# EAGLE library part PINHD-1X14 (library C128_U36_1MB)
PIN HEADER
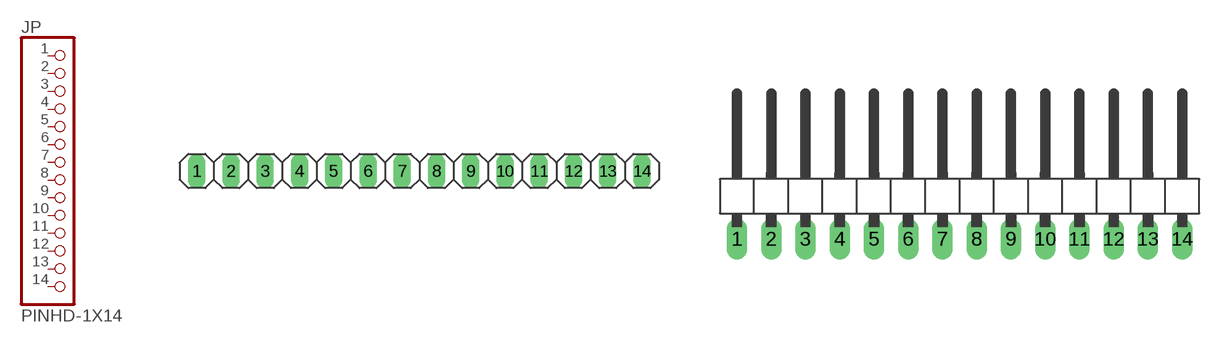
[diagram p7: symbol with the pads of 1X14; footprints 1X14, 1X14/90]

Designator prefix JP

## PINHD-1X14  [1X14]
1  1  pas
2  2  pas
3  3  pas
4  4  pas
5  5  pas
6  6  pas
7  7  pas
8  8  pas
9  9  pas
10  10  pas
11  11  pas
12  12  pas
13  13  pas
14  14  pas

## PINHD-1X14/90  [1X14/90]
Pads as for 1X14

## PINHD-1X14DET  [1X14/DET]
Pads as for 1X14

## Footprint 1X14 (pad centres in mm)
PIN HEADER
drill 0.8 long: 1 -16.51,0; 2 -13.97,0; 3 -11.43,0; 4 -8.89,0; 5 -6.35,0; 6 -3.81,0; 7 -1.27,0; 8 1.27,0; 9 3.81,0; 10 6.35,0; 11 8.89,0; 12 11.43,0; 13 13.97,0; 14 16.51,0

## Footprint 1X14/90 (pad centres in mm)
PIN HEADER
drill 1.016 long: 1 -16.51,-3.81; 2 -13.97,-3.81; 3 -11.43,-3.81; 4 -8.89,-3.81; 5 -6.35,-3.81; 6 -3.81,-3.81; 7 -1.27,-3.81; 8 1.27,-3.81; 9 3.81,-3.81; 10 6.35,-3.81; 11 8.89,-3.81; 12 11.43,-3.81; 13 13.97,-3.81; 14 16.51,-3.81

## Footprint 1X14/DET (pad centres in mm)
Single-row, 14-pin Pin Header (Male) Straight, 2.54 mm (0.10 in) col pitch, 7.76 mm mating length, 35.56 X 2.54 X 10.76 mm body Single-row (1X14), 14-pin Pin Header (Male) Straight package with 2.54 mm (0.10 in) col pitch, 0.70 mm lead width, 4.20 mm tail length and 7.76 mm mating length with overall size 35.56 X 2.54 X 10.76 mm, pin pattern - clockwise from top left
drill 0.8 pad 1.422: 1 -16.51,0; 2 -13.97,0; 3 -11.43,0; 4 -8.89,0; 5 -6.35,0; 6 -3.81,0; 7 -1.27,0; 8 1.27,0; 9 3.81,0; 10 6.35,0; 11 8.89,0; 12 11.43,0; 13 13.97,0; 14 16.51,0